# Altium footprint library PcbLib_Boost.PcbLib: 2 footprints
Each footprint in its own frame and in the unit in brackets; x right, y up, seen from the top. Pads: shape width x height; smd on the part's side, far side on the other; paste and mask are expansions set on the pad; w line width, h text height; cw(c..) or ccw(c..) is an arc to the next point about the centre after c.
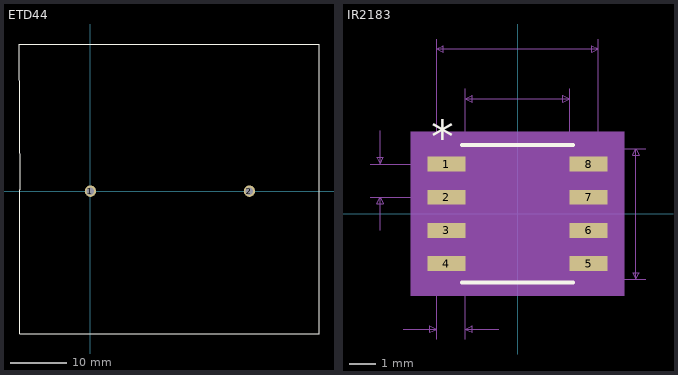
[diagram p0: the footprints below, top view; thin cyan lines are the x and y axes]

## ETD44 [mm]
pads (2):
  round 2 hole 1.31: 1(0,0) 2(28,0)
Top Overlay:
  lines w0.2: -12.573,25.908 40.259,25.908 40.259,-25.146 -12.462,-25.146 -12.462,0.254 -12.573,25.908
3D body "User Library-ETD44.STEP": height 42.61, standoff 0.01, extent -11.403,-24.546 39.597,25.054

## IR2183 [mil]
pads (8):
  rect 57.28x22.36 smd paste+0 mask+0: 1(-107.14,75) 2(-107.14,25) 3(-107.14,-25) 4(-107.14,-75) 5(107.14,-75) 6(107.14,-25) 7(107.14,25) 8(107.14,75)
Top Overlay:
  lines w6: -83.5,-103.5 83.5,-103.5 ; -83.5,103.5 83.5,103.5
  text "*" at -129.64,92.36 h50
Mechanical 5:
  region: 160.78,-123.5 -160.78,-123.5 -160.78,123.5 160.78,123.5
Mechanical 7:
  lines w1: -222.14,25 -107.14,25 ; -222.14,75 -107.14,75 ; -207.14,-25 -207.14,25 ; -207.14,125 -207.14,75 ; -172,-173.5 -122,-173.5 ; -122,-188.5 -122,0 -122,263.5 ; -78.5,-188.5 -78.5,0 -78.5,188.5 ; -28.5,-173.5 -78.5,-173.5 ; 0,-98.5 193.5,-98.5 ; 0,98.5 193.5,98.5 ; 78.5,0 78.5,188.5 ; 122,0 122,263.5 ; -207.14,25 -202.14,15 -212.14,15 -207.14,25 ; -207.14,75 -202.14,85 -212.14,85 -207.14,75 ; -122,-173.5 -132,-178.5 -132,-168.5 -122,-173.5 ; -122,248.5 -112,243.5 -112,253.5 -122,248.5 ; -122,248.5 122,248.5 ; -78.5,-173.5 -68.5,-178.5 -68.5,-168.5 -78.5,-173.5 ; -78.5,173.5 -68.5,168.5 -68.5,178.5 -78.5,173.5 ; -78.5,173.5 78.5,173.5 ; 78.5,173.5 68.5,168.5 68.5,178.5 78.5,173.5 ; 122,248.5 112,243.5 112,253.5 122,248.5 ; 178.5,-98.5 183.5,-88.5 173.5,-88.5 178.5,-98.5 ; 178.5,-98.5 178.5,98.5 ; 178.5,98.5 183.5,88.5 173.5,88.5 178.5,98.5
  text "0.05in/1.27mm" at -181.5,-218.5 h25
  text "0.05in/1.27mm" at -389.64,37.5 h25
  text "0.197in/5.004mm" at 198.5,-12.5 h25
  text "0.244in/6.198mm" at -93.75,268.5 h25
  text "0.157in/3.988mm" at -93.75,193.5 h25
  text "Alt 2 Padstyle: b229_152h76" at -337.5,-598.5 h50
  text "Alt 1 Padstyle: b152_229h76" at -337.5,-538.5 h50
  text "Pin One Padstyle: r145_57" at -312.5,-358.5 h50
  text "Default Padstyle: r145_57" at -312.5,-298.5 h50
Mechanical 13:
  lines w0: -12,98.5 ccw(c0,98.5) 12,98.5
  lines w1: -122,-85 -78.5,-85 -78.5,-65 -122,-65 -122,-85 ; -122,-35 -78.5,-35 -78.5,-15 -122,-15 -122,-35 ; -122,15 -78.5,15 -78.5,35 -122,35 -122,15 ; -122,65 -78.5,65 -78.5,85 -122,85 -122,65 ; -78.5,-98.5 -78.5,98.5 78.5,98.5 78.5,-98.5 -78.5,-98.5 ; 78.5,-85 122,-85 122,-65 78.5,-65 78.5,-85 ; 78.5,-35 122,-35 122,-15 78.5,-15 78.5,-35 ; 78.5,15 122,15 122,35 78.5,35 78.5,15 ; 78.5,65 122,65 122,85 78.5,85 78.5,65
  text "*" at -76,45.5 h50
Mechanical 15:
  region: -88.5,-96.18 -145.78,-96.18 -145.78,96.18 -88.5,96.18 -88.5,108.5 88.5,108.5 88.5,96.18 145.78,96.18 145.78,-96.18 88.5,-96.18 88.5,-108.5 -88.5,-108.5
  lines w6: -145.78,-96.18 -88.5,-96.18 -88.5,-108.5 88.5,-108.5 88.5,-96.18 145.78,-96.18 145.78,96.18 88.5,96.18 88.5,108.5 -88.5,108.5 -88.5,96.18 -145.78,96.18 -145.78,-96.18
3D body: height 10, standoff 0, extent 0,0 10,10
3D body "D8.step": height 69.09, standoff 0, extent -122,-98.5 122.01,98.51